# Altium integrated library Analog Devices Data Converters Digital-to-Analog Converters.IntLib: 2231 symbols (part 133 of 181)
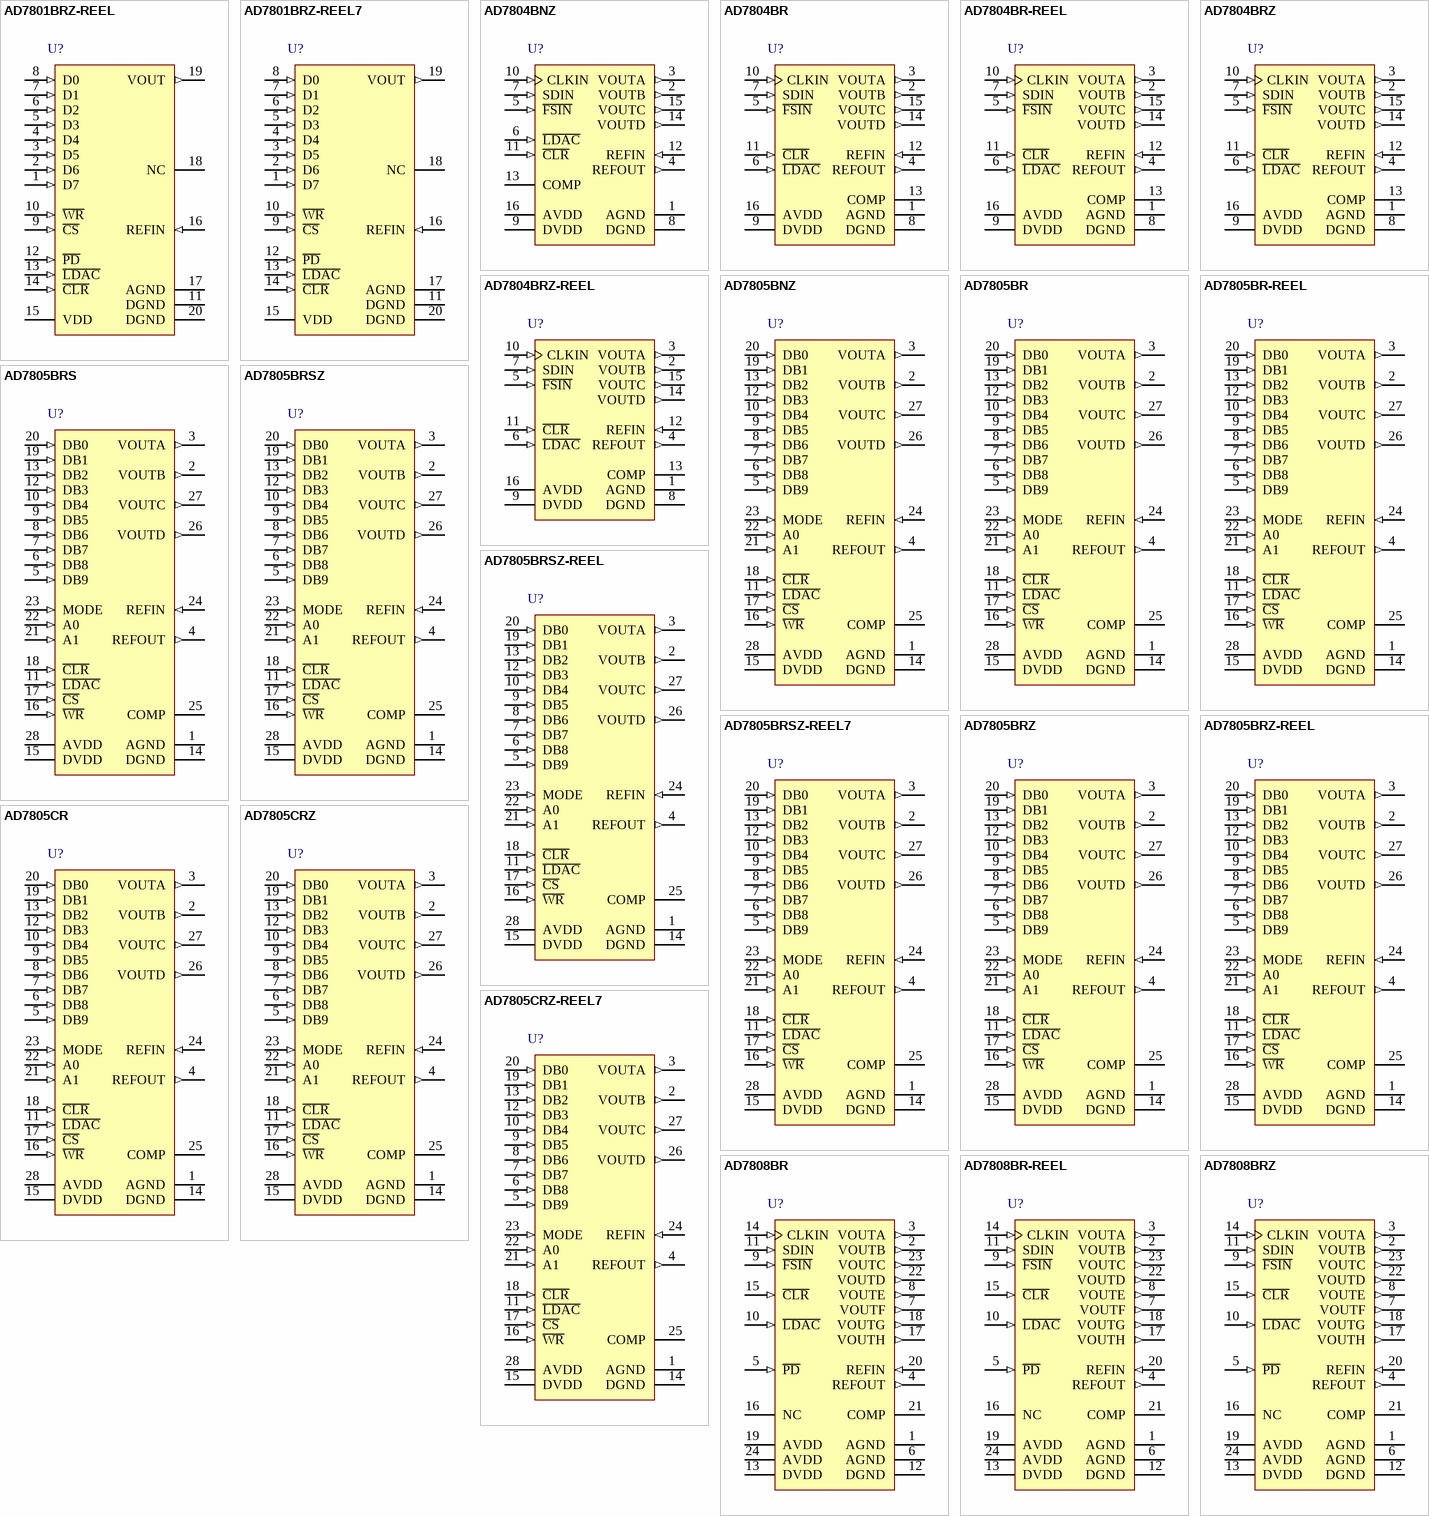
[diagram p246: symbols AD7801BRZ-REEL to AD7808BRZ]

## AD7804BR
designator U?
Quad 10-Bit Digital-to-Analog Converter, 3.3 to 5 V, -40 to +85 degC, RW-16, Tube; Generic Part Number: AD7804; Manufacturer: Analog Devices; PartNumber: AD7804BR; # DAC Outputs: 4; Max V+: 5.5V; Op Pwr Diss: 66mW; Resolution (Bits): 10; Settling Time: 1.5µs; Single Supply: Yes; DatasheetVersion: Rev.A; PackageVersion: 032707-B; PackageReference: RW-16; PackageDescription: 16-Lead Standard Small Outline Package [SOIC_W]; Supplier 1: Digi-Key; Supplier Part Number 1: AD7804BR-ND; Supplier 2: Mouser; Supplier Part Number 2: 584-AD7804BR; Packing: Tube; RoHS: N; Mounting Technology: Surface Mount; Code_JEDEC: MS-013-AA; Code_IPC: SOIC127P1030-16; ComponentLink1Description: Manufacturer URL; ComponentLink1URL: http://www.analog.com/en/index.html; ComponentLink2Description: Datasheet; ComponentLink2URL: http://www.analog.com/static/imported-files/data_sheets/AD7804_7805_7808_7809.pdf; ComponentLink3Description: Package Specification; ComponentLink3URL: http://www.analog.com/static/imported-files/packages/PKG_PDF/SOIC_WIDE%20%28RW%29/RW_16.pdf; ComponentLink4Description: Product URL; ComponentLink4URL: http://www.analog.com/en/digital-to-analog-converters/da-converters/ad7804/products/product.html
footprint RW-16_N (SOIC, 16-Leads, Body 10.3x7.5mm, Pitch 1.27mm, IPC Medium Density)
footprint RW-16_L (SOIC, 16-Leads, Body 10.3x7.5mm, Pitch 1.27mm, IPC High Density)
footprint RW-16_M (SOIC, 16-Leads, Body 10.3x7.5mm, Pitch 1.27mm, IPC Low Density)
pins: 1 AGND (power) "Ground reference point for analog circuitry.", 2 VOUTB (out) "Analog output voltage from the DACs.", 3 VOUTA (out) "Analog output voltage from the DACs.", 4 REFOUT (out) "Reference Output. This is a bandgap reference and is typically 1.23 V.", 5 ~{FSIN} (in) "Level-triggered control input (active low). This is the frame synchronization signal for the input data. When F\S\I\N\ goes low, it enables the input shift register and data is transferred on the falling edges of CLKIN.", 6 ~{LDAC} (in) "L\D\A\C\ Input. When this digital input is taken low, all DAC registers are simultaneously updated with the contents of the data registers. If L\D\A\C\ is tied permanently low, or is low on the sixteenth falling clock edge (See Datasheet)", 7 SDIN (in) "Serial Data Input. These devices accept a 16-bit word. Data is clocked into the input shift register on the falling edge of CLKIN.", 8 DGND (power) "Ground reference point for digital circuitry.", 9 DVDD (power) "Digital Power Supply.", 10 CLKIN (in) "Clock Input. Data is clocked into the input shift register on the falling edges of CLKIN. Duty Cycle should be between 40% and 60%.", 11 ~{CLR} (in) "Asynchronous C\L\R\ Input. When this input is taken low, all Main DAC outputs are cleared either to VBIAS or to VBIAS/16 volts. All Sub DACs are also cleared and thus the transfer function of the Main DAC will remain (See Datasheet)", 12 REFIN (in) "This is an external reference input for the DACs. When this reference is selected for a DAC in the control register, the analog output from the selected DAC swings around this point.", 13 COMP "Compensation Pin. This pin provides an output from the internal VDD/2 divider and is provided for ac bypass purposes only. This pin should be decoupled with 1 nF capacitors to both AVDD and AGND. This pin can be overdriven (See Datasheet)", 14 VOUTD (out) "Analog output voltage from the DACs.", 15 VOUTC (out) "Analog output voltage from the DACs.", 16 AVDD (power) "Analog Power Supply. +3.3 V to +5 V."

## AD7804BR-REEL
designator U?
Quad 10-Bit Digital-to-Analog Converter, 3.3 to 5 V, -40 to +85 degC, RW-16, Reel; Generic Part Number: AD7804; Manufacturer: Analog Devices; PartNumber: AD7804BR-REEL; # DAC Outputs: 4; Max V+: 5.5V; Op Pwr Diss: 66mW; Resolution (Bits): 10; Settling Time: 1.5µs; Single Supply: Yes; DatasheetVersion: Rev.A; PackageVersion: 032707-B; PackageReference: RW-16; PackageDescription: 16-Lead Standard Small Outline Package [SOIC_W]; Supplier 1: Digi-Key; Supplier Part Number 1: AD7804BR-REEL-ND; Supplier 2: Mouser; Supplier Part Number 2: 584-AD7804BR-R; Packing: Reel; RoHS: N; Mounting Technology: Surface Mount; Code_JEDEC: MS-013-AA; Code_IPC: SOIC127P1030-16; ComponentLink1Description: Manufacturer URL; ComponentLink1URL: http://www.analog.com/en/index.html; ComponentLink2Description: Datasheet; ComponentLink2URL: http://www.analog.com/static/imported-files/data_sheets/AD7804_7805_7808_7809.pdf; ComponentLink3Description: Package Specification; ComponentLink3URL: http://www.analog.com/static/imported-files/packages/PKG_PDF/SOIC_WIDE%20%28RW%29/RW_16.pdf; ComponentLink4Description: Product URL; ComponentLink4URL: http://www.analog.com/en/digital-to-analog-converters/da-converters/ad7804/products/product.html
footprint RW-16_N (SOIC, 16-Leads, Body 10.3x7.5mm, Pitch 1.27mm, IPC Medium Density)
footprint RW-16_L (SOIC, 16-Leads, Body 10.3x7.5mm, Pitch 1.27mm, IPC High Density)
footprint RW-16_M (SOIC, 16-Leads, Body 10.3x7.5mm, Pitch 1.27mm, IPC Low Density)
pins: 1 AGND (power) "Ground reference point for analog circuitry.", 2 VOUTB (out) "Analog output voltage from the DACs.", 3 VOUTA (out) "Analog output voltage from the DACs.", 4 REFOUT (out) "Reference Output. This is a bandgap reference and is typically 1.23 V.", 5 ~{FSIN} (in) "Level-triggered control input (active low). This is the frame synchronization signal for the input data. When F\S\I\N\ goes low, it enables the input shift register and data is transferred on the falling edges of CLKIN.", 6 ~{LDAC} (in) "L\D\A\C\ Input. When this digital input is taken low, all DAC registers are simultaneously updated with the contents of the data registers. If L\D\A\C\ is tied permanently low, or is low on the sixteenth falling clock edge (See Datasheet)", 7 SDIN (in) "Serial Data Input. These devices accept a 16-bit word. Data is clocked into the input shift register on the falling edge of CLKIN.", 8 DGND (power) "Ground reference point for digital circuitry.", 9 DVDD (power) "Digital Power Supply.", 10 CLKIN (in) "Clock Input. Data is clocked into the input shift register on the falling edges of CLKIN. Duty Cycle should be between 40% and 60%.", 11 ~{CLR} (in) "Asynchronous C\L\R\ Input. When this input is taken low, all Main DAC outputs are cleared either to VBIAS or to VBIAS/16 volts. All Sub DACs are also cleared and thus the transfer function of the Main DAC will remain (See Datasheet)", 12 REFIN (in) "This is an external reference input for the DACs. When this reference is selected for a DAC in the control register, the analog output from the selected DAC swings around this point.", 13 COMP "Compensation Pin. This pin provides an output from the internal VDD/2 divider and is provided for ac bypass purposes only. This pin should be decoupled with 1 nF capacitors to both AVDD and AGND. This pin can be overdriven (See Datasheet)", 14 VOUTD (out) "Analog output voltage from the DACs.", 15 VOUTC (out) "Analog output voltage from the DACs.", 16 AVDD (power) "Analog Power Supply. +3.3 V to +5 V."

## AD7804BRZ
designator U?
Quad 10-Bit Digital-to-Analog Converter, 3.3 to 5 V, 0 to +70 degC, RW-16, Pb-Free, Tube; Generic Part Number: AD7804; Manufacturer: Analog Devices; PartNumber: AD7804BRZ; # DAC Outputs: 4; Max V+: 5.5V; Op Pwr Diss: 66mW; Resolution (Bits): 10; Settling Time: 1.5µs; Single Supply: Yes; DatasheetVersion: Rev.A; PackageVersion: 032707-B; PackageReference: RW-16; PackageDescription: 16-Lead Standard Small Outline Package [SOIC_W]; Supplier 1: Digi-Key; Supplier Part Number 1: AD7804BRZ-ND; Supplier 2: Newark; Supplier Part Number 2: 88H0031; Supplier 3: Mouser; Supplier Part Number 3: 584-AD7804BRZ; Packing: Tube; RoHS: Y; Mounting Technology: Surface Mount; Code_JEDEC: MS-013-AA; Code_IPC: SOIC127P1030-16; ComponentLink1Description: Manufacturer URL; ComponentLink1URL: http://www.analog.com/en/index.html; ComponentLink2Description: Datasheet; ComponentLink2URL: http://www.analog.com/static/imported-files/data_sheets/AD7804_7805_7808_7809.pdf; ComponentLink3Description: Package Specification; ComponentLink3URL: http://www.analog.com/static/imported-files/packages/PKG_PDF/SOIC_WIDE%20%28RW%29/RW_16.pdf; ComponentLink4Description: Product URL; ComponentLink4URL: http://www.analog.com/en/digital-to-analog-converters/da-converters/ad7804/products/product.html
footprint RW-16_N (SOIC, 16-Leads, Body 10.3x7.5mm, Pitch 1.27mm, IPC Medium Density)
footprint RW-16_L (SOIC, 16-Leads, Body 10.3x7.5mm, Pitch 1.27mm, IPC High Density)
footprint RW-16_M (SOIC, 16-Leads, Body 10.3x7.5mm, Pitch 1.27mm, IPC Low Density)
pins: 1 AGND (power) "Ground reference point for analog circuitry.", 2 VOUTB (out) "Analog output voltage from the DACs.", 3 VOUTA (out) "Analog output voltage from the DACs.", 4 REFOUT (out) "Reference Output. This is a bandgap reference and is typically 1.23 V.", 5 ~{FSIN} (in) "Level-triggered control input (active low). This is the frame synchronization signal for the input data. When F\S\I\N\ goes low, it enables the input shift register and data is transferred on the falling edges of CLKIN.", 6 ~{LDAC} (in) "L\D\A\C\ Input. When this digital input is taken low, all DAC registers are simultaneously updated with the contents of the data registers. If L\D\A\C\ is tied permanently low, or is low on the sixteenth falling clock edge (See Datasheet)", 7 SDIN (in) "Serial Data Input. These devices accept a 16-bit word. Data is clocked into the input shift register on the falling edge of CLKIN.", 8 DGND (power) "Ground reference point for digital circuitry.", 9 DVDD (power) "Digital Power Supply.", 10 CLKIN (in) "Clock Input. Data is clocked into the input shift register on the falling edges of CLKIN. Duty Cycle should be between 40% and 60%.", 11 ~{CLR} (in) "Asynchronous C\L\R\ Input. When this input is taken low, all Main DAC outputs are cleared either to VBIAS or to VBIAS/16 volts. All Sub DACs are also cleared and thus the transfer function of the Main DAC will remain (See Datasheet)", 12 REFIN (in) "This is an external reference input for the DACs. When this reference is selected for a DAC in the control register, the analog output from the selected DAC swings around this point.", 13 COMP "Compensation Pin. This pin provides an output from the internal VDD/2 divider and is provided for ac bypass purposes only. This pin should be decoupled with 1 nF capacitors to both AVDD and AGND. This pin can be overdriven (See Datasheet)", 14 VOUTD (out) "Analog output voltage from the DACs.", 15 VOUTC (out) "Analog output voltage from the DACs.", 16 AVDD (power) "Analog Power Supply. +3.3 V to +5 V."

## AD7804BRZ-REEL
designator U?
Quad 10-Bit Digital-to-Analog Converter, 3.3 to 5 V, 0 to +70 degC, RW-16, Pb-Free, Reel; Generic Part Number: AD7804; Manufacturer: Analog Devices; PartNumber: AD7804BRZ-REEL; # DAC Outputs: 4; Max V+: 5.5V; Op Pwr Diss: 66mW; Resolution (Bits): 10; Settling Time: 1.5µs; Single Supply: Yes; DatasheetVersion: Rev.A; PackageVersion: 032707-B; PackageReference: RW-16; PackageDescription: 16-Lead Standard Small Outline Package [SOIC_W]; Supplier 1: Digi-Key; Supplier Part Number 1: AD7804BRZ-REEL-ND; Supplier 2: Mouser; Supplier Part Number 2: 584-AD7804BRZ-R; Packing: Reel; RoHS: Y; Mounting Technology: Surface Mount; Code_JEDEC: MS-013-AA; Code_IPC: SOIC127P1030-16; ComponentLink1Description: Manufacturer URL; ComponentLink1URL: http://www.analog.com/en/index.html; ComponentLink2Description: Datasheet; ComponentLink2URL: http://www.analog.com/static/imported-files/data_sheets/AD7804_7805_7808_7809.pdf; ComponentLink3Description: Package Specification; ComponentLink3URL: http://www.analog.com/static/imported-files/packages/PKG_PDF/SOIC_WIDE%20%28RW%29/RW_16.pdf; ComponentLink4Description: Product URL; ComponentLink4URL: http://www.analog.com/en/digital-to-analog-converters/da-converters/ad7804/products/product.html
footprint RW-16_N (SOIC, 16-Leads, Body 10.3x7.5mm, Pitch 1.27mm, IPC Medium Density)
footprint RW-16_L (SOIC, 16-Leads, Body 10.3x7.5mm, Pitch 1.27mm, IPC High Density)
footprint RW-16_M (SOIC, 16-Leads, Body 10.3x7.5mm, Pitch 1.27mm, IPC Low Density)
pins: 1 AGND (power) "Ground reference point for analog circuitry.", 2 VOUTB (out) "Analog output voltage from the DACs.", 3 VOUTA (out) "Analog output voltage from the DACs.", 4 REFOUT (out) "Reference Output. This is a bandgap reference and is typically 1.23 V.", 5 ~{FSIN} (in) "Level-triggered control input (active low). This is the frame synchronization signal for the input data. When F\S\I\N\ goes low, it enables the input shift register and data is transferred on the falling edges of CLKIN.", 6 ~{LDAC} (in) "L\D\A\C\ Input. When this digital input is taken low, all DAC registers are simultaneously updated with the contents of the data registers. If L\D\A\C\ is tied permanently low, or is low on the sixteenth falling clock edge (See Datasheet)", 7 SDIN (in) "Serial Data Input. These devices accept a 16-bit word. Data is clocked into the input shift register on the falling edge of CLKIN.", 8 DGND (power) "Ground reference point for digital circuitry.", 9 DVDD (power) "Digital Power Supply.", 10 CLKIN (in) "Clock Input. Data is clocked into the input shift register on the falling edges of CLKIN. Duty Cycle should be between 40% and 60%.", 11 ~{CLR} (in) "Asynchronous C\L\R\ Input. When this input is taken low, all Main DAC outputs are cleared either to VBIAS or to VBIAS/16 volts. All Sub DACs are also cleared and thus the transfer function of the Main DAC will remain (See Datasheet)", 12 REFIN (in) "This is an external reference input for the DACs. When this reference is selected for a DAC in the control register, the analog output from the selected DAC swings around this point.", 13 COMP "Compensation Pin. This pin provides an output from the internal VDD/2 divider and is provided for ac bypass purposes only. This pin should be decoupled with 1 nF capacitors to both AVDD and AGND. This pin can be overdriven (See Datasheet)", 14 VOUTD (out) "Analog output voltage from the DACs.", 15 VOUTC (out) "Analog output voltage from the DACs.", 16 AVDD (power) "Analog Power Supply. +3.3 V to +5 V."

## AD7805BNZ
designator U?
Quad 10-Bit Digital-to-Analog Converter, 3.3 to 5 V, -40 to +85 degC, N-28-2, Pb-Free, Tube; Generic Part Number: AD7805; Manufacturer: Analog Devices; PartNumber: AD7805BNZ; # DAC Outputs: 4; Max V+: 5.5V; Op Pwr Diss: 66mW; Resolution (Bits): 10; Settling Time: 1.5µs; Single Supply: Yes; DatasheetVersion: Rev.A; PackageVersion: 071006-A; PackageReference: N-28-2; PackageDescription: 28-Lead Plastic Dual In-Line Package [PDIP]; Supplier 1: Digi-Key; Supplier Part Number 1: AD7805BNZ-ND; Supplier 2: Mouser; Supplier Part Number 2: 584-AD7805BNZ; Packing: Tube; RoHS: Y; Mounting Technology: Through Hole; Code_JEDEC: MS-011; ComponentLink1Description: Manufacturer URL; ComponentLink1URL: http://www.analog.com/en/index.html; ComponentLink2Description: Datasheet; ComponentLink2URL: http://www.analog.com/static/imported-files/data_sheets/AD7804_7805_7808_7809.pdf; ComponentLink3Description: Package Specification; ComponentLink3URL: http://www.analog.com/static/imported-files/packages/50849324123784N_28_2.pdf; ComponentLink4Description: Product URL; ComponentLink4URL: http://www.analog.com/en/digital-to-analog-converters/da-converters/ad7805/products/product.html
footprint N-28-2 (DIP, 28-Leads, Row Spacing 15.55mm, Pitch 2.54mm, Body 37.4x13.5mm)
pins: 1 AGND (power) "Ground reference point for analog circuitry.", 2 VOUTB (out) "Analog output voltages from the DACs.", 3 VOUTA (out) "Analog output voltages from the DACs.", 4 REFOUT (out) "Reference Output. This is a bandgap reference and is typically 1.23 V.", 5 DB9 (in) "Data Input. DB9 is the 8 MSBs of the data word.", 6 DB8 (in) "Data Input. DB8 is the 8 MSBs of the data word.", 7 DB7 (in) "Data Input. DB7 is the 8 MSBs of the data word.", 8 DB6 (in) "Data Input. DB6 is the 8 MSBs of the data word.", 9 DB5 (in) "Data Input. DB5 is the 8 MSBs of the data word.", 10 DB4 (in) "Data Input. DB4 is the 8 MSBs of the data word.", 11 ~{LDAC} (in) "L\D\A\C\ Input. When this digital input is taken low, all DAC registers are simultaneously updated with the contents of the DAC data registers. If L\D\A\C\ is permanently tied low, or is low during the rising edge of W\R\ (See Datasheet)", 12 DB3 (in) "Data Input. DB3 is the 8 MSBs of the data word.", 13 DB2 (in) "Data Input. DB2 is the 8 MSBs of the data word.", 14 DGND (power) "Ground reference point for digital circuitry.", 15 DVDD (power) "Digital Power Supply.", 16 ~{WR} (in) "Write Input W\R\ is an active low logic input which is used in conjunction with C\S\ and the address pins to write data to the relevant registers.", 17 ~{CS} (in) "Chip Select. Active low logic input.", 18 ~{CLR} (in) "Asynchronous C\L\R\ Input.  When this input is taken low, all Main DAC outputs are cleared either to VBIAS or to VBIAS/16 volts. All Sub DACs are also cleared and thus the transfer function of the MAIN DAC will remain (See Datasheet)", 19 DB1 (in) "DB1 function as the 2 LSBs of the 10-bit word in 10-bit parallel mode but have other functions when BYTE loading structure is used.", 20 DB0 (in) "DB0 function as the 2 LSBs of the 10-bit word in 10-bit parallel mode but have other functions when BYTE loading structure is used.", 21 A1 (in) "DAC Address Inputs. These digital inputs are used in conjunction with C\S\ and W\R\ to determine which DAC channel control register or DAC data register is loaded from the input register. These address bits are don’t cares (See Datasheet)", 22 A0 (in) "DAC Address Inputs. These digital inputs are used in conjunction with C\S\ and W\R\ to determine which DAC channel control register or DAC data register is loaded from the input register. These address bits are don’t cares (See Datasheet)", 23 MODE (in) "Logic Input. Logic high enables writing to the DAC data registers, a logic low enables writing to the control registers.", 24 REFIN (in) "This is an external reference input for the DAC. When this reference is selected for the DAC in the control register, the analog output from the selected DAC swings around this point.", 25 COMP "Compensation Pin. This pin provides an output from the internal VDD/2 divider and is provided for ac bypass purposes only. This pin should be decoupled with 1 nF capacitors to both AVDD and AGND. This pin can be overdriven (See Datasheet)", 26 VOUTD (out) "Analog output voltages from the DACs.", 27 VOUTC (out) "Analog output voltages from the DACs.", 28 AVDD (power) "Analog Power Supply."

## AD7805BR
designator U?
Quad 10-Bit Digital-to-Analog Converter, 3.3 to 5 V, 0 to +70 degC, RW-28, Tube; Generic Part Number: AD7805; Manufacturer: Analog Devices; PartNumber: AD7805BR; # DAC Outputs: 4; Max V+: 5.5V; Op Pwr Diss: 66mW; Resolution (Bits): 10; Settling Time: 1.5µs; Single Supply: Yes; DatasheetVersion: Rev.A; PackageVersion: 060706-A; PackageReference: RW-28; PackageDescription: 28-Lead Standard Small Outline Package [SOIC_W]; Supplier 1: Digi-Key; Supplier Part Number 1: AD7805BR-ND; Supplier 2: Mouser; Supplier Part Number 2: 584-AD7805BR; Packing: Tube; RoHS: N; Mounting Technology: Surface Mount; Code_JEDEC: MS-013-AE; ComponentLink1Description: Manufacturer URL; ComponentLink1URL: http://www.analog.com/en/index.html; ComponentLink2Description: Datasheet; ComponentLink2URL: http://www.analog.com/static/imported-files/data_sheets/AD7804_7805_7808_7809.pdf; ComponentLink3Description: Product URL; ComponentLink3URL: http://www.analog.com/en/digital-to-analog-converters/da-converters/ad7805/products/product.html
footprint RW-28_N (SOIC, 28-Leads, Body 17.9x7.5mm, Pitch 1.27mm, IPC Medium Density)
footprint RW-28_L (SOIC, 28-Leads, Body 17.9x7.5mm, Pitch 1.27mm, IPC High Density)
footprint RW-28_M (SOIC, 28-Leads, Body 17.9x7.5mm, Pitch 1.27mm, IPC Low Density)
pins: 1 AGND (power) "Ground reference point for analog circuitry.", 2 VOUTB (out) "Analog output voltages from the DACs.", 3 VOUTA (out) "Analog output voltages from the DACs.", 4 REFOUT (out) "Reference Output. This is a bandgap reference and is typically 1.23 V.", 5 DB9 (in) "Data Input. DB9 is the 8 MSBs of the data word.", 6 DB8 (in) "Data Input. DB8 is the 8 MSBs of the data word.", 7 DB7 (in) "Data Input. DB7 is the 8 MSBs of the data word.", 8 DB6 (in) "Data Input. DB6 is the 8 MSBs of the data word.", 9 DB5 (in) "Data Input. DB5 is the 8 MSBs of the data word.", 10 DB4 (in) "Data Input. DB4 is the 8 MSBs of the data word.", 11 ~{LDAC} (in) "L\D\A\C\ Input. When this digital input is taken low, all DAC registers are simultaneously updated with the contents of the DAC data registers. If L\D\A\C\ is permanently tied low, or is low during the rising edge of W\R\ (See Datasheet)", 12 DB3 (in) "Data Input. DB3 is the 8 MSBs of the data word.", 13 DB2 (in) "Data Input. DB2 is the 8 MSBs of the data word.", 14 DGND (power) "Ground reference point for digital circuitry.", 15 DVDD (power) "Digital Power Supply.", 16 ~{WR} (in) "Write Input W\R\ is an active low logic input which is used in conjunction with C\S\ and the address pins to write data to the relevant registers.", 17 ~{CS} (in) "Chip Select. Active low logic input.", 18 ~{CLR} (in) "Asynchronous C\L\R\ Input.  When this input is taken low, all Main DAC outputs are cleared either to VBIAS or to VBIAS/16 volts. All Sub DACs are also cleared and thus the transfer function of the MAIN DAC will remain (See Datasheet)", 19 DB1 (in) "DB1 function as the 2 LSBs of the 10-bit word in 10-bit parallel mode but have other functions when BYTE loading structure is used.", 20 DB0 (in) "DB0 function as the 2 LSBs of the 10-bit word in 10-bit parallel mode but have other functions when BYTE loading structure is used.", 21 A1 (in) "DAC Address Inputs. These digital inputs are used in conjunction with C\S\ and W\R\ to determine which DAC channel control register or DAC data register is loaded from the input register. These address bits are don’t cares (See Datasheet)", 22 A0 (in) "DAC Address Inputs. These digital inputs are used in conjunction with C\S\ and W\R\ to determine which DAC channel control register or DAC data register is loaded from the input register. These address bits are don’t cares (See Datasheet)", 23 MODE (in) "Logic Input. Logic high enables writing to the DAC data registers, a logic low enables writing to the control registers.", 24 REFIN (in) "This is an external reference input for the DAC. When this reference is selected for the DAC in the control register, the analog output from the selected DAC swings around this point.", 25 COMP "Compensation Pin. This pin provides an output from the internal VDD/2 divider and is provided for ac bypass purposes only. This pin should be decoupled with 1 nF capacitors to both AVDD and AGND. This pin can be overdriven (See Datasheet)", 26 VOUTD (out) "Analog output voltages from the DACs.", 27 VOUTC (out) "Analog output voltages from the DACs.", 28 AVDD (power) "Analog Power Supply."

## AD7805BR-REEL
designator U?
Quad 10-Bit Digital-to-Analog Converter, 3.3 to 5 V, 0 to +70 degC, RW-28, Reel; Generic Part Number: AD7805; Manufacturer: Analog Devices; PartNumber: AD7805BR-REEL; # DAC Outputs: 4; Max V+: 5.5V; Op Pwr Diss: 66mW; Resolution (Bits): 10; Settling Time: 1.5µs; Single Supply: Yes; DatasheetVersion: Rev.A; PackageVersion: 060706-A; PackageReference: RW-28; PackageDescription: 28-Lead Standard Small Outline Package [SOIC_W]; Supplier 1: Mouser; Supplier Part Number 1: N/A; Packing: Reel; RoHS: N; Mounting Technology: Surface Mount; Code_JEDEC: MS-013-AE; ComponentLink1Description: Manufacturer URL; ComponentLink1URL: http://www.analog.com/en/index.html; ComponentLink2Description: Datasheet; ComponentLink2URL: http://www.analog.com/static/imported-files/data_sheets/AD7804_7805_7808_7809.pdf; ComponentLink3Description: Product URL; ComponentLink3URL: http://www.analog.com/en/digital-to-analog-converters/da-converters/ad7805/products/product.html
footprint RW-28_N (SOIC, 28-Leads, Body 17.9x7.5mm, Pitch 1.27mm, IPC Medium Density)
footprint RW-28_L (SOIC, 28-Leads, Body 17.9x7.5mm, Pitch 1.27mm, IPC High Density)
footprint RW-28_M (SOIC, 28-Leads, Body 17.9x7.5mm, Pitch 1.27mm, IPC Low Density)
pins: 1 AGND (power) "Ground reference point for analog circuitry.", 2 VOUTB (out) "Analog output voltages from the DACs.", 3 VOUTA (out) "Analog output voltages from the DACs.", 4 REFOUT (out) "Reference Output. This is a bandgap reference and is typically 1.23 V.", 5 DB9 (in) "Data Input. DB9 is the 8 MSBs of the data word.", 6 DB8 (in) "Data Input. DB8 is the 8 MSBs of the data word.", 7 DB7 (in) "Data Input. DB7 is the 8 MSBs of the data word.", 8 DB6 (in) "Data Input. DB6 is the 8 MSBs of the data word.", 9 DB5 (in) "Data Input. DB5 is the 8 MSBs of the data word.", 10 DB4 (in) "Data Input. DB4 is the 8 MSBs of the data word.", 11 ~{LDAC} (in) "L\D\A\C\ Input. When this digital input is taken low, all DAC registers are simultaneously updated with the contents of the DAC data registers. If L\D\A\C\ is permanently tied low, or is low during the rising edge of W\R\ (See Datasheet)", 12 DB3 (in) "Data Input. DB3 is the 8 MSBs of the data word.", 13 DB2 (in) "Data Input. DB2 is the 8 MSBs of the data word.", 14 DGND (power) "Ground reference point for digital circuitry.", 15 DVDD (power) "Digital Power Supply.", 16 ~{WR} (in) "Write Input W\R\ is an active low logic input which is used in conjunction with C\S\ and the address pins to write data to the relevant registers.", 17 ~{CS} (in) "Chip Select. Active low logic input.", 18 ~{CLR} (in) "Asynchronous C\L\R\ Input.  When this input is taken low, all Main DAC outputs are cleared either to VBIAS or to VBIAS/16 volts. All Sub DACs are also cleared and thus the transfer function of the MAIN DAC will remain (See Datasheet)", 19 DB1 (in) "DB1 function as the 2 LSBs of the 10-bit word in 10-bit parallel mode but have other functions when BYTE loading structure is used.", 20 DB0 (in) "DB0 function as the 2 LSBs of the 10-bit word in 10-bit parallel mode but have other functions when BYTE loading structure is used.", 21 A1 (in) "DAC Address Inputs. These digital inputs are used in conjunction with C\S\ and W\R\ to determine which DAC channel control register or DAC data register is loaded from the input register. These address bits are don’t cares (See Datasheet)", 22 A0 (in) "DAC Address Inputs. These digital inputs are used in conjunction with C\S\ and W\R\ to determine which DAC channel control register or DAC data register is loaded from the input register. These address bits are don’t cares (See Datasheet)", 23 MODE (in) "Logic Input. Logic high enables writing to the DAC data registers, a logic low enables writing to the control registers.", 24 REFIN (in) "This is an external reference input for the DAC. When this reference is selected for the DAC in the control register, the analog output from the selected DAC swings around this point.", 25 COMP "Compensation Pin. This pin provides an output from the internal VDD/2 divider and is provided for ac bypass purposes only. This pin should be decoupled with 1 nF capacitors to both AVDD and AGND. This pin can be overdriven (See Datasheet)", 26 VOUTD (out) "Analog output voltages from the DACs.", 27 VOUTC (out) "Analog output voltages from the DACs.", 28 AVDD (power) "Analog Power Supply."

## AD7805BRS
designator U?
Quad 10-Bit Digital-to-Analog Converter, 3.3 to 5 V, -40 to +85 degC, RS-28, Tube; Generic Part Number: AD7805; Manufacturer: Analog Devices; PartNumber: AD7805BRS; # DAC Outputs: 4; Max V+: 5.5V; Op Pwr Diss: 66mW; Resolution (Bits): 10; Settling Time: 1.5µs; Single Supply: Yes; DatasheetVersion: Rev.A; PackageVersion: 060106-A; PackageReference: RS-28; PackageDescription: 28-Lead Shrink Small Outline Package [SSOP]; Supplier 1: Digi-Key; Supplier Part Number 1: AD7805BRS-ND; Supplier 2: Mouser; Supplier Part Number 2: 584-AD7805BRS; Packing: Tube; RoHS: N; Mounting Technology: Surface Mount; Code_JEDEC: MO-150-AH; ComponentLink1Description: Manufacturer URL; ComponentLink1URL: http://www.analog.com/en/index.html; ComponentLink2Description: Datasheet; ComponentLink2URL: http://www.analog.com/static/imported-files/data_sheets/AD7804_7805_7808_7809.pdf; ComponentLink3Description: Package Specification; ComponentLink3URL: http://www.analog.com/static/imported-files/packages/32122249223724RS_28.pdf; ComponentLink4Description: Product URL; ComponentLink4URL: http://www.analog.com/en/digital-to-analog-converters/da-converters/ad7805/products/product.html
footprint RS-28_N (SOP, 28-Leads, Body 10.2x5.3mm, Pitch 0.65mm, IPC Medium Density)
footprint RS-28_L (SOP, 28-Leads, Body 10.2x5.3mm, Pitch 0.65mm, IPC High Density)
footprint RS-28_M (SOP, 28-Leads, Body 10.2x5.3mm, Pitch 0.65mm, IPC Low Density)
pins: 1 AGND (power) "Ground reference point for analog circuitry.", 2 VOUTB (out) "Analog output voltages from the DACs.", 3 VOUTA (out) "Analog output voltages from the DACs.", 4 REFOUT (out) "Reference Output. This is a bandgap reference and is typically 1.23 V.", 5 DB9 (in) "Data Input. DB9 is the 8 MSBs of the data word.", 6 DB8 (in) "Data Input. DB8 is the 8 MSBs of the data word.", 7 DB7 (in) "Data Input. DB7 is the 8 MSBs of the data word.", 8 DB6 (in) "Data Input. DB6 is the 8 MSBs of the data word.", 9 DB5 (in) "Data Input. DB5 is the 8 MSBs of the data word.", 10 DB4 (in) "Data Input. DB4 is the 8 MSBs of the data word.", 11 ~{LDAC} (in) "L\D\A\C\ Input. When this digital input is taken low, all DAC registers are simultaneously updated with the contents of the DAC data registers. If L\D\A\C\ is permanently tied low, or is low during the rising edge of W\R\ (See Datasheet)", 12 DB3 (in) "Data Input. DB3 is the 8 MSBs of the data word.", 13 DB2 (in) "Data Input. DB2 is the 8 MSBs of the data word.", 14 DGND (power) "Ground reference point for digital circuitry.", 15 DVDD (power) "Digital Power Supply.", 16 ~{WR} (in) "Write Input W\R\ is an active low logic input which is used in conjunction with C\S\ and the address pins to write data to the relevant registers.", 17 ~{CS} (in) "Chip Select. Active low logic input.", 18 ~{CLR} (in) "Asynchronous C\L\R\ Input.  When this input is taken low, all Main DAC outputs are cleared either to VBIAS or to VBIAS/16 volts. All Sub DACs are also cleared and thus the transfer function of the MAIN DAC will remain (See Datasheet)", 19 DB1 (in) "DB1 function as the 2 LSBs of the 10-bit word in 10-bit parallel mode but have other functions when BYTE loading structure is used.", 20 DB0 (in) "DB0 function as the 2 LSBs of the 10-bit word in 10-bit parallel mode but have other functions when BYTE loading structure is used.", 21 A1 (in) "DAC Address Inputs. These digital inputs are used in conjunction with C\S\ and W\R\ to determine which DAC channel control register or DAC data register is loaded from the input register. These address bits are don’t cares (See Datasheet)", 22 A0 (in) "DAC Address Inputs. These digital inputs are used in conjunction with C\S\ and W\R\ to determine which DAC channel control register or DAC data register is loaded from the input register. These address bits are don’t cares (See Datasheet)", 23 MODE (in) "Logic Input. Logic high enables writing to the DAC data registers, a logic low enables writing to the control registers.", 24 REFIN (in) "This is an external reference input for the DAC. When this reference is selected for the DAC in the control register, the analog output from the selected DAC swings around this point.", 25 COMP "Compensation Pin. This pin provides an output from the internal VDD/2 divider and is provided for ac bypass purposes only. This pin should be decoupled with 1 nF capacitors to both AVDD and AGND. This pin can be overdriven (See Datasheet)", 26 VOUTD (out) "Analog output voltages from the DACs.", 27 VOUTC (out) "Analog output voltages from the DACs.", 28 AVDD (power) "Analog Power Supply."

## AD7805BRSZ
designator U?
Quad 10-Bit Digital-to-Analog Converter, 3.3 to 5 V, 0 to +70 degC, RS-28, Pb-Free, Tube; Generic Part Number: AD7805; Manufacturer: Analog Devices; PartNumber: AD7805BRSZ; # DAC Outputs: 4; Max V+: 5.5V; Op Pwr Diss: 66mW; Resolution (Bits): 10; Settling Time: 1.5µs; Single Supply: Yes; DatasheetVersion: Rev.A; PackageVersion: 060106-A; PackageReference: RS-28; PackageDescription: 28-Lead Shrink Small Outline Package [SSOP]; Supplier 1: Digi-Key; Supplier Part Number 1: AD7805BRSZ-ND; Supplier 2: Farnell; Supplier Part Number 2: 1438617; Supplier 3: Newark; Supplier Part Number 3: 56P5005; Supplier 4: Newark; Supplier Part Number 4: 59K5491; Supplier 5: Mouser; Supplier Part Number 5: 584-AD7805BRSZ; Packing: Tube; RoHS: Y; Mounting Technology: Surface Mount; Code_JEDEC: MO-150-AH; ComponentLink1Description: Manufacturer URL; ComponentLink1URL: http://www.analog.com/en/index.html; ComponentLink2Description: Datasheet; ComponentLink2URL: http://www.analog.com/static/imported-files/data_sheets/AD7804_7805_7808_7809.pdf; ComponentLink3Description: Package Specification; ComponentLink3URL: http://www.analog.com/static/imported-files/packages/32122249223724RS_28.pdf; ComponentLink4Description: Product URL; ComponentLink4URL: http://www.analog.com/en/digital-to-analog-converters/da-converters/ad7805/products/product.html
footprint RS-28_N (SOP, 28-Leads, Body 10.2x5.3mm, Pitch 0.65mm, IPC Medium Density)
footprint RS-28_L (SOP, 28-Leads, Body 10.2x5.3mm, Pitch 0.65mm, IPC High Density)
footprint RS-28_M (SOP, 28-Leads, Body 10.2x5.3mm, Pitch 0.65mm, IPC Low Density)
pins: 1 AGND (power) "Ground reference point for analog circuitry.", 2 VOUTB (out) "Analog output voltages from the DACs.", 3 VOUTA (out) "Analog output voltages from the DACs.", 4 REFOUT (out) "Reference Output. This is a bandgap reference and is typically 1.23 V.", 5 DB9 (in) "Data Input. DB9 is the 8 MSBs of the data word.", 6 DB8 (in) "Data Input. DB8 is the 8 MSBs of the data word.", 7 DB7 (in) "Data Input. DB7 is the 8 MSBs of the data word.", 8 DB6 (in) "Data Input. DB6 is the 8 MSBs of the data word.", 9 DB5 (in) "Data Input. DB5 is the 8 MSBs of the data word.", 10 DB4 (in) "Data Input. DB4 is the 8 MSBs of the data word.", 11 ~{LDAC} (in) "L\D\A\C\ Input. When this digital input is taken low, all DAC registers are simultaneously updated with the contents of the DAC data registers. If L\D\A\C\ is permanently tied low, or is low during the rising edge of W\R\ (See Datasheet)", 12 DB3 (in) "Data Input. DB3 is the 8 MSBs of the data word.", 13 DB2 (in) "Data Input. DB2 is the 8 MSBs of the data word.", 14 DGND (power) "Ground reference point for digital circuitry.", 15 DVDD (power) "Digital Power Supply.", 16 ~{WR} (in) "Write Input W\R\ is an active low logic input which is used in conjunction with C\S\ and the address pins to write data to the relevant registers.", 17 ~{CS} (in) "Chip Select. Active low logic input.", 18 ~{CLR} (in) "Asynchronous C\L\R\ Input.  When this input is taken low, all Main DAC outputs are cleared either to VBIAS or to VBIAS/16 volts. All Sub DACs are also cleared and thus the transfer function of the MAIN DAC will remain (See Datasheet)", 19 DB1 (in) "DB1 function as the 2 LSBs of the 10-bit word in 10-bit parallel mode but have other functions when BYTE loading structure is used.", 20 DB0 (in) "DB0 function as the 2 LSBs of the 10-bit word in 10-bit parallel mode but have other functions when BYTE loading structure is used.", 21 A1 (in) "DAC Address Inputs. These digital inputs are used in conjunction with C\S\ and W\R\ to determine which DAC channel control register or DAC data register is loaded from the input register. These address bits are don’t cares (See Datasheet)", 22 A0 (in) "DAC Address Inputs. These digital inputs are used in conjunction with C\S\ and W\R\ to determine which DAC channel control register or DAC data register is loaded from the input register. These address bits are don’t cares (See Datasheet)", 23 MODE (in) "Logic Input. Logic high enables writing to the DAC data registers, a logic low enables writing to the control registers.", 24 REFIN (in) "This is an external reference input for the DAC. When this reference is selected for the DAC in the control register, the analog output from the selected DAC swings around this point.", 25 COMP "Compensation Pin. This pin provides an output from the internal VDD/2 divider and is provided for ac bypass purposes only. This pin should be decoupled with 1 nF capacitors to both AVDD and AGND. This pin can be overdriven (See Datasheet)", 26 VOUTD (out) "Analog output voltages from the DACs.", 27 VOUTC (out) "Analog output voltages from the DACs.", 28 AVDD (power) "Analog Power Supply."

## AD7805BRSZ-REEL
designator U?
Quad 10-Bit Digital-to-Analog Converter, 3.3 to 5 V, 0 to +70 degC, RS-28, Pb-Free, Reel; Generic Part Number: AD7805; Manufacturer: Analog Devices; PartNumber: AD7805BRSZ-REEL; # DAC Outputs: 4; Max V+: 5.5V; Op Pwr Diss: 66mW; Resolution (Bits): 10; Settling Time: 1.5µs; Single Supply: Yes; DatasheetVersion: Rev.A; PackageVersion: 060106-A; PackageReference: RS-28; PackageDescription: 28-Lead Shrink Small Outline Package [SSOP]; Supplier 1: Digi-Key; Supplier Part Number 1: AD7805BRSZ-REEL-ND; Supplier 2: Newark; Supplier Part Number 2: 59K5492; Supplier 3: Mouser; Supplier Part Number 3: 584-AD7805BRSZ-R; Packing: Reel; RoHS: Y; Mounting Technology: Surface Mount; Code_JEDEC: MO-150-AH; ComponentLink1Description: Manufacturer URL; ComponentLink1URL: http://www.analog.com/en/index.html; ComponentLink2Description: Datasheet; ComponentLink2URL: http://www.analog.com/static/imported-files/data_sheets/AD7804_7805_7808_7809.pdf; ComponentLink3Description: Package Specification; ComponentLink3URL: http://www.analog.com/static/imported-files/packages/32122249223724RS_28.pdf; ComponentLink4Description: Product URL; ComponentLink4URL: http://www.analog.com/en/digital-to-analog-converters/da-converters/ad7805/products/product.html
footprint RS-28_N (SOP, 28-Leads, Body 10.2x5.3mm, Pitch 0.65mm, IPC Medium Density)
footprint RS-28_L (SOP, 28-Leads, Body 10.2x5.3mm, Pitch 0.65mm, IPC High Density)
footprint RS-28_M (SOP, 28-Leads, Body 10.2x5.3mm, Pitch 0.65mm, IPC Low Density)
pins: 1 AGND (power) "Ground reference point for analog circuitry.", 2 VOUTB (out) "Analog output voltages from the DACs.", 3 VOUTA (out) "Analog output voltages from the DACs.", 4 REFOUT (out) "Reference Output. This is a bandgap reference and is typically 1.23 V.", 5 DB9 (in) "Data Input. DB9 is the 8 MSBs of the data word.", 6 DB8 (in) "Data Input. DB8 is the 8 MSBs of the data word.", 7 DB7 (in) "Data Input. DB7 is the 8 MSBs of the data word.", 8 DB6 (in) "Data Input. DB6 is the 8 MSBs of the data word.", 9 DB5 (in) "Data Input. DB5 is the 8 MSBs of the data word.", 10 DB4 (in) "Data Input. DB4 is the 8 MSBs of the data word.", 11 ~{LDAC} (in) "L\D\A\C\ Input. When this digital input is taken low, all DAC registers are simultaneously updated with the contents of the DAC data registers. If L\D\A\C\ is permanently tied low, or is low during the rising edge of W\R\ (See Datasheet)", 12 DB3 (in) "Data Input. DB3 is the 8 MSBs of the data word.", 13 DB2 (in) "Data Input. DB2 is the 8 MSBs of the data word.", 14 DGND (power) "Ground reference point for digital circuitry.", 15 DVDD (power) "Digital Power Supply.", 16 ~{WR} (in) "Write Input W\R\ is an active low logic input which is used in conjunction with C\S\ and the address pins to write data to the relevant registers.", 17 ~{CS} (in) "Chip Select. Active low logic input.", 18 ~{CLR} (in) "Asynchronous C\L\R\ Input.  When this input is taken low, all Main DAC outputs are cleared either to VBIAS or to VBIAS/16 volts. All Sub DACs are also cleared and thus the transfer function of the MAIN DAC will remain (See Datasheet)", 19 DB1 (in) "DB1 function as the 2 LSBs of the 10-bit word in 10-bit parallel mode but have other functions when BYTE loading structure is used.", 20 DB0 (in) "DB0 function as the 2 LSBs of the 10-bit word in 10-bit parallel mode but have other functions when BYTE loading structure is used.", 21 A1 (in) "DAC Address Inputs. These digital inputs are used in conjunction with C\S\ and W\R\ to determine which DAC channel control register or DAC data register is loaded from the input register. These address bits are don’t cares (See Datasheet)", 22 A0 (in) "DAC Address Inputs. These digital inputs are used in conjunction with C\S\ and W\R\ to determine which DAC channel control register or DAC data register is loaded from the input register. These address bits are don’t cares (See Datasheet)", 23 MODE (in) "Logic Input. Logic high enables writing to the DAC data registers, a logic low enables writing to the control registers.", 24 REFIN (in) "This is an external reference input for the DAC. When this reference is selected for the DAC in the control register, the analog output from the selected DAC swings around this point.", 25 COMP "Compensation Pin. This pin provides an output from the internal VDD/2 divider and is provided for ac bypass purposes only. This pin should be decoupled with 1 nF capacitors to both AVDD and AGND. This pin can be overdriven (See Datasheet)", 26 VOUTD (out) "Analog output voltages from the DACs.", 27 VOUTC (out) "Analog output voltages from the DACs.", 28 AVDD (power) "Analog Power Supply."

## AD7805BRSZ-REEL7
designator U?
Quad 10-Bit Digital-to-Analog Converter, 3.3 to 5 V, 0 to +70 degC, RS-28, Pb-Free, Reel; Generic Part Number: AD7805; Manufacturer: Analog Devices; PartNumber: AD7805BRSZ-REEL7; # DAC Outputs: 4; Max V+: 5.5V; Op Pwr Diss: 66mW; Resolution (Bits): 10; Settling Time: 1.5µs; Single Supply: Yes; DatasheetVersion: Rev.A; PackageVersion: 060106-A; PackageReference: RS-28; PackageDescription: 28-Lead Shrink Small Outline Package [SSOP]; Supplier 1: Digi-Key; Supplier Part Number 1: AD7805BRSZ-REEL7-ND; Supplier 2: Newark; Supplier Part Number 2: 59K5493; Supplier 3: Mouser; Supplier Part Number 3: 584-AD7805BRSZ-R7; Packing: Reel; RoHS: Y; Mounting Technology: Surface Mount; Code_JEDEC: MO-150-AH; ComponentLink1Description: Manufacturer URL; ComponentLink1URL: http://www.analog.com/en/index.html; ComponentLink2Description: Datasheet; ComponentLink2URL: http://www.analog.com/static/imported-files/data_sheets/AD7804_7805_7808_7809.pdf; ComponentLink3Description: Package Specification; ComponentLink3URL: http://www.analog.com/static/imported-files/packages/32122249223724RS_28.pdf; ComponentLink4Description: Product URL; ComponentLink4URL: http://www.analog.com/en/digital-to-analog-converters/da-converters/ad7805/products/product.html
footprint RS-28_N (SOP, 28-Leads, Body 10.2x5.3mm, Pitch 0.65mm, IPC Medium Density)
footprint RS-28_L (SOP, 28-Leads, Body 10.2x5.3mm, Pitch 0.65mm, IPC High Density)
footprint RS-28_M (SOP, 28-Leads, Body 10.2x5.3mm, Pitch 0.65mm, IPC Low Density)
pins: 1 AGND (power) "Ground reference point for analog circuitry.", 2 VOUTB (out) "Analog output voltages from the DACs.", 3 VOUTA (out) "Analog output voltages from the DACs.", 4 REFOUT (out) "Reference Output. This is a bandgap reference and is typically 1.23 V.", 5 DB9 (in) "Data Input. DB9 is the 8 MSBs of the data word.", 6 DB8 (in) "Data Input. DB8 is the 8 MSBs of the data word.", 7 DB7 (in) "Data Input. DB7 is the 8 MSBs of the data word.", 8 DB6 (in) "Data Input. DB6 is the 8 MSBs of the data word.", 9 DB5 (in) "Data Input. DB5 is the 8 MSBs of the data word.", 10 DB4 (in) "Data Input. DB4 is the 8 MSBs of the data word.", 11 ~{LDAC} (in) "L\D\A\C\ Input. When this digital input is taken low, all DAC registers are simultaneously updated with the contents of the DAC data registers. If L\D\A\C\ is permanently tied low, or is low during the rising edge of W\R\ (See Datasheet)", 12 DB3 (in) "Data Input. DB3 is the 8 MSBs of the data word.", 13 DB2 (in) "Data Input. DB2 is the 8 MSBs of the data word.", 14 DGND (power) "Ground reference point for digital circuitry.", 15 DVDD (power) "Digital Power Supply.", 16 ~{WR} (in) "Write Input W\R\ is an active low logic input which is used in conjunction with C\S\ and the address pins to write data to the relevant registers.", 17 ~{CS} (in) "Chip Select. Active low logic input.", 18 ~{CLR} (in) "Asynchronous C\L\R\ Input.  When this input is taken low, all Main DAC outputs are cleared either to VBIAS or to VBIAS/16 volts. All Sub DACs are also cleared and thus the transfer function of the MAIN DAC will remain (See Datasheet)", 19 DB1 (in) "DB1 function as the 2 LSBs of the 10-bit word in 10-bit parallel mode but have other functions when BYTE loading structure is used.", 20 DB0 (in) "DB0 function as the 2 LSBs of the 10-bit word in 10-bit parallel mode but have other functions when BYTE loading structure is used.", 21 A1 (in) "DAC Address Inputs. These digital inputs are used in conjunction with C\S\ and W\R\ to determine which DAC channel control register or DAC data register is loaded from the input register. These address bits are don’t cares (See Datasheet)", 22 A0 (in) "DAC Address Inputs. These digital inputs are used in conjunction with C\S\ and W\R\ to determine which DAC channel control register or DAC data register is loaded from the input register. These address bits are don’t cares (See Datasheet)", 23 MODE (in) "Logic Input. Logic high enables writing to the DAC data registers, a logic low enables writing to the control registers.", 24 REFIN (in) "This is an external reference input for the DAC. When this reference is selected for the DAC in the control register, the analog output from the selected DAC swings around this point.", 25 COMP "Compensation Pin. This pin provides an output from the internal VDD/2 divider and is provided for ac bypass purposes only. This pin should be decoupled with 1 nF capacitors to both AVDD and AGND. This pin can be overdriven (See Datasheet)", 26 VOUTD (out) "Analog output voltages from the DACs.", 27 VOUTC (out) "Analog output voltages from the DACs.", 28 AVDD (power) "Analog Power Supply."